# EAGLE library part RAK3172 (library RAK3172_board)
RAK4260 LoRaWAN module from RAKwireless.
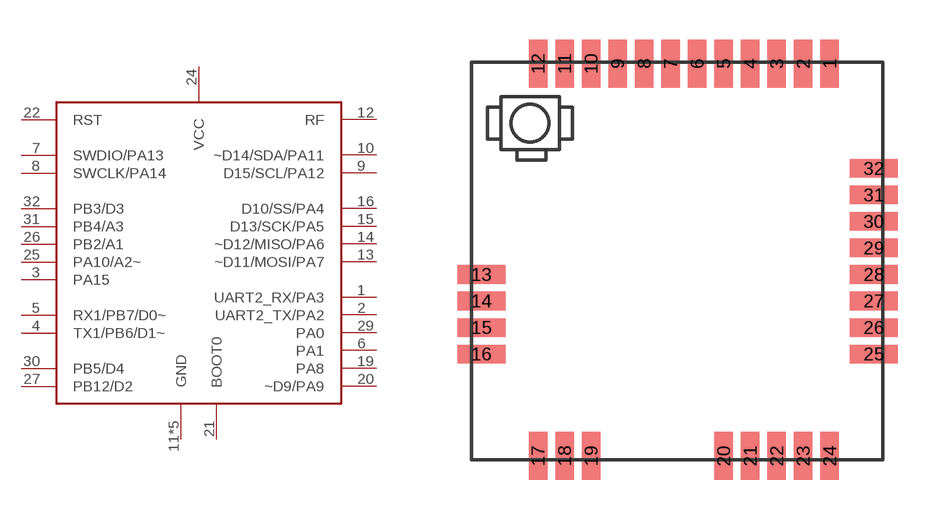
[diagram p0: symbol with the pads of RAK3172; footprint RAK3172]

Designator prefix IC

## RAK3172HF  [RAK3172]
1  UART2_RX/PA3
2  UART2_TX/PA2
3  PA15
4  TX1/PB6/D1~
5  RX1/PB7/D0~
6  PA1
7  SWDIO/PA13
8  SWCLK/PA14
9  D15/SCL/PA12
10  ~D14/SDA/PA11
11  GND  sup
12  RF  out
13  ~D11/MOSI/PA7
14  ~D12/MISO/PA6
15  D13/SCK/PA5
16  D10/SS/PA4
17  GND  sup
18  GND  sup
19  PA8
20  ~D9/PA9
21  BOOT0  in
22  RST  in
23  GND  sup
24  VCC  sup
25  PA10/A2~
26  PB2/A1
27  PB12/D2
28  GND  sup
29  PA0
30  PB5/D4
31  PB4/A3
32  PB3/D3

## Footprint RAK3172 (pad centres in mm)
RAK4260 LoRaWAN module from RAKwireless.
smd 0.7 x 1.8: 1 13.5,14.945; 2 12.5,14.945; 3 11.5,14.945; 4 10.5,14.945; 5 9.5,14.945; 6 8.5,14.945; 7 7.5,14.945; 8 6.5,14.945; 9 5.5,14.945; 10 4.5,14.945; 11 3.5,14.945; 12 2.5,14.945; 17 2.5,0.145; 18 3.5,0.145; 19 4.5,0.145; 20 9.5,0.145; 21 10.5,0.145; 22 11.5,0.145; 23 12.5,0.145; 24 13.5,0.145
smd 1.8 x 0.7: 13 0.365,6.99; 14 0.365,5.99; 15 0.365,4.99; 16 0.365,3.99; 25 15.165,3.99; 26 15.165,4.99; 27 15.165,5.99; 28 15.165,6.99; 29 15.165,7.99; 30 15.165,8.99; 31 15.165,9.99; 32 15.165,10.99